# Altium footprint library Buck_Conv_PCBlib.PcbLib: 8 footprints
Each footprint in its own frame and in the unit in brackets; x right, y up, seen from the top. Pads: shape width x height; smd on the part's side, far side on the other; paste and mask are expansions set on the pad; w line width, h text height; cw(c..) or ccw(c..) is an arc to the next point about the centre after c.
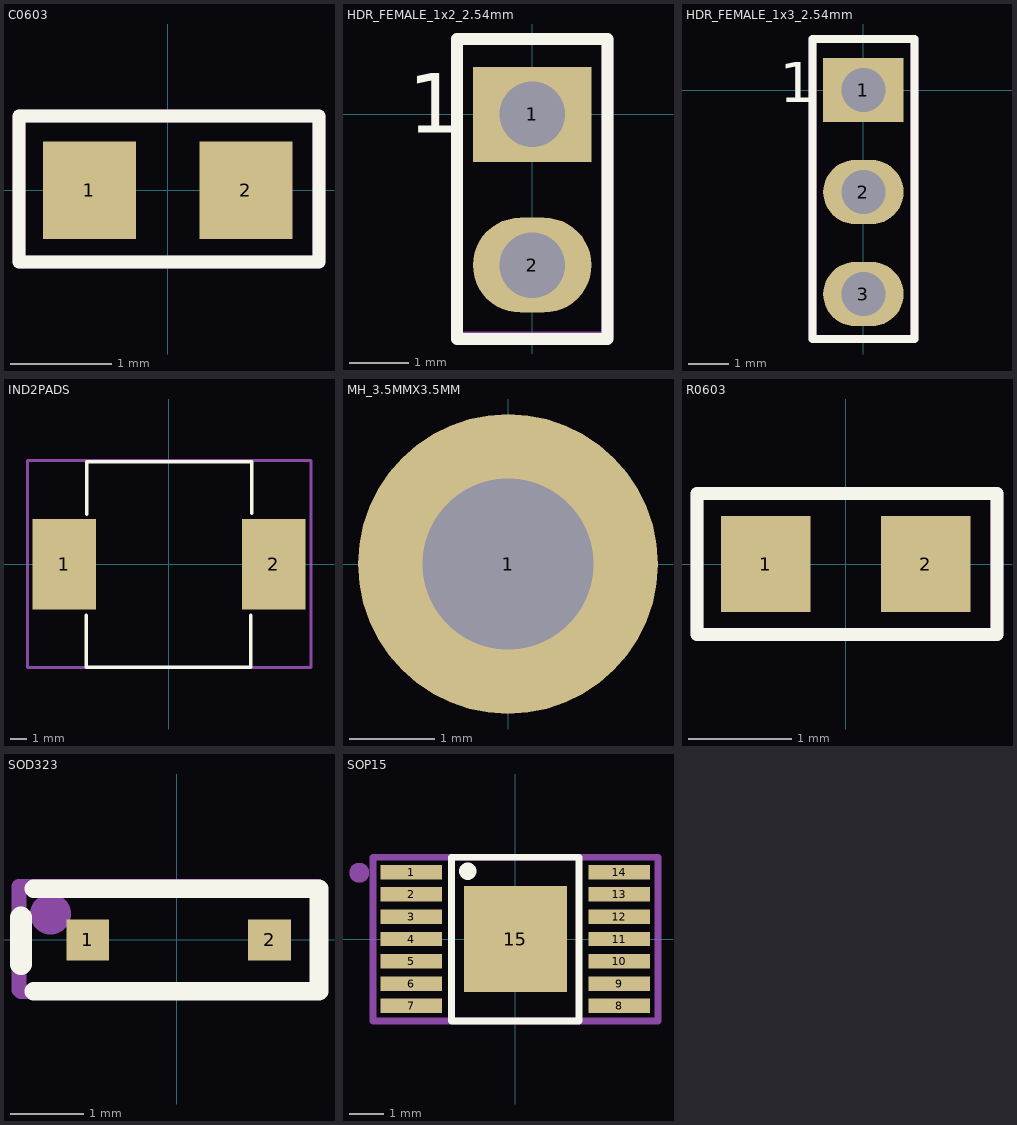
[diagram p0: the footprints below, top view; thin cyan lines are the x and y axes]

## C0603 [mm]
pads (2):
  rect 0.92x0.97 smd: 1(-0.775,0) 2(0.775,0)
Top Overlay:
  lines w0.127: -1.473,-0.711 -1.473,0.737 1.499,0.737 1.499,-0.711 -1.473,-0.711
Assembly layer:
  lines w0.127: -1.473,-0.711 -1.473,0.737 1.499,0.737 1.499,-0.711 -1.473,-0.711
  text ".Designator" at -1.73,-0.432 h1
3D body "C0603C106M9PACTU.STEP": height 0.79, standoff -0.01, extent -0.8,-0.467 0.8,0.483

## HDR_FEMALE_1x2_2.54mm [mm]
pads (2):
  rect 2x1.6 hole 1.1: 1(0,0)
  oval 2x1.6 hole 1.1: 2(0,-2.54)
Top Overlay:
  lines w0.2: -1.27,-3.785 1.27,-3.785 1.27,1.27 -1.27,1.27 -1.27,-3.785
  text "1" at -2.086,-0.308 h1
Assembly layer:
  circle w0.508: c0,0 r0.254
  lines w0.2: -1.27,-3.759 -1.27,1.27 1.27,1.27 1.27,-3.759 -1.27,-3.759
  text ".Designator" at 0.421,-4.167 h0.8

## HDR_FEMALE_1x3_2.54mm [mm]
pads (3):
  rect 2x1.6 hole 1.1: 1(0,0)
  oval 2x1.6 hole 1.1: 2(0,-2.54) 3(0,-5.08)
Top Overlay:
  lines w0.2: -1.27,-6.198 -1.27,1.27 1.27,1.27 1.27,-6.198 -1.27,-6.198
  text "1" at -2.086,-0.308 h1
Assembly layer:
  circle w0.508: c0,0 r0.254
  lines w0.2: -1.27,-6.198 1.27,-6.198 1.27,1.27 -1.27,1.27 -1.27,-6.198
  text ".Designator" at 0.319,-5.869 h0.8

## IND2PADS [mm]
pads (2):
  rect 3.85x5.5 smd: 1(-6.375,0) 2(6.375,0)
Top Overlay:
  lines w0.2: -5.029,-3.099 -5.029,-4.077 -5.029,-5.524 -5.029,-6.248 4.978,-6.248 4.978,-3.099 ; -5.004,3.048 -5.004,6.248 5.029,6.248 5.029,3.099
Assembly layer:
  lines w0.2: -8.611,-6.274 8.636,-6.274 8.636,6.325 -8.611,6.325 -8.611,-6.274
  text ".Designator" at -7.831,-1.069 h2
3D body "DR125.step": height 8, standoff 0, extent -6.451,-6.273 6.045,6.223

## MH_3.5MMX3.5MM [mm]
pads (1):
  round 3.5 hole 2 mask+0.05: 1(0,0)

## R0603 [mm]
pads (2):
  rect 0.87x0.93 smd: 1(-0.78,0) 2(0.78,0)
Top Overlay:
  lines w0.127: -1.448,-0.686 1.473,-0.686 1.473,0.686 -1.448,0.686 -1.448,-0.686
Assembly layer:
  lines w0.127: -1.448,-0.686 1.473,-0.686 1.473,0.686 -1.448,0.686 -1.448,-0.686
  text ".Designator" at -1.322,-0.275 h0.6
3D body "CRCW060310K0FKEAC.STEP": height 0.55, standoff 0, extent -0.825,-0.4 0.775,0.4

## SOD323 [mil]
pads (2):
  rect 23x22 smd: 1(-48,0) 2(50,0)
Top Overlay:
  lines w10: -77,-27.56 76.63,-27.56 76.63,-13.78 76.63,13.78 76.63,27.56 -77,27.56
  lines w11.81: -84,-13 -84,12
Assembly layer:
  circle w20: c-68,14 r1
  lines w7.87: -85,-27 -85,29 76,29 76,-28 -84,-28 -85,-27
  text ".Designator" at -48.06,-4.19 h23.62
3D body "User Library-SOD323.step": height 35.43, standoff -3.54, extent -48.21,-25.21 50.21,24

## SOP15 [mm]
pads (15):
  rect 1.78x0.42 smd: 1(-3.03,1.95) 2(-3.03,1.3) 3(-3.03,0.65) 4(-3.03,0) 5(-3.03,-0.65) 6(-3.03,-1.3) 7(-3.03,-1.95) 8(3.03,-1.95) 9(3.03,-1.3) 10(3.03,-0.65) 11(3.03,0) 12(3.03,0.65) 13(3.03,1.3) 14(3.03,1.95)
  rect 3x3.1 smd: 15(0,0)
Top Overlay:
  lines w0.2: -1.854,-2.393 -1.854,2.382 1.854,2.382 1.854,-2.393 -1.854,-2.393
  lines w0.508: -1.387,1.978 ccw(c-1.422,1.981) -1.386,1.981
Assembly layer:
  circle w0.508: c-4.547,1.93 r0.036
  lines w0.2: -4.148,-2.393 -4.148,2.382 4.158,2.382 4.158,-2.393 -4.148,-2.393
  text ".Designator" at -3.866,-0.615 h1.6
3D body "PWP0014A.stp": height 1, standoff 0, extent -3.261,-2.525 3.16,2.475